# Altium schematic symbol library DIODE 0402.Schlib: 1 symbol
Pins are listed as number, name and electrical type; pins without a type are passive.

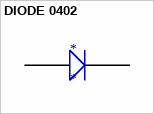
[diagram p0: symbol DIODE 0402]

## DIODE 0402
designator *
pins: 0, 1